# Altium footprint library SamacSys.PcbLib: 24 footprints (part 2 of 2)
Each footprint in its own frame and in the unit in brackets; x right, y up, seen from the top. Pads: shape width x height; smd on the part's side, far side on the other; paste and mask are expansions set on the pad; w line width, h text height; cw(c..) or ccw(c..) is an arc to the next point about the centre after c.
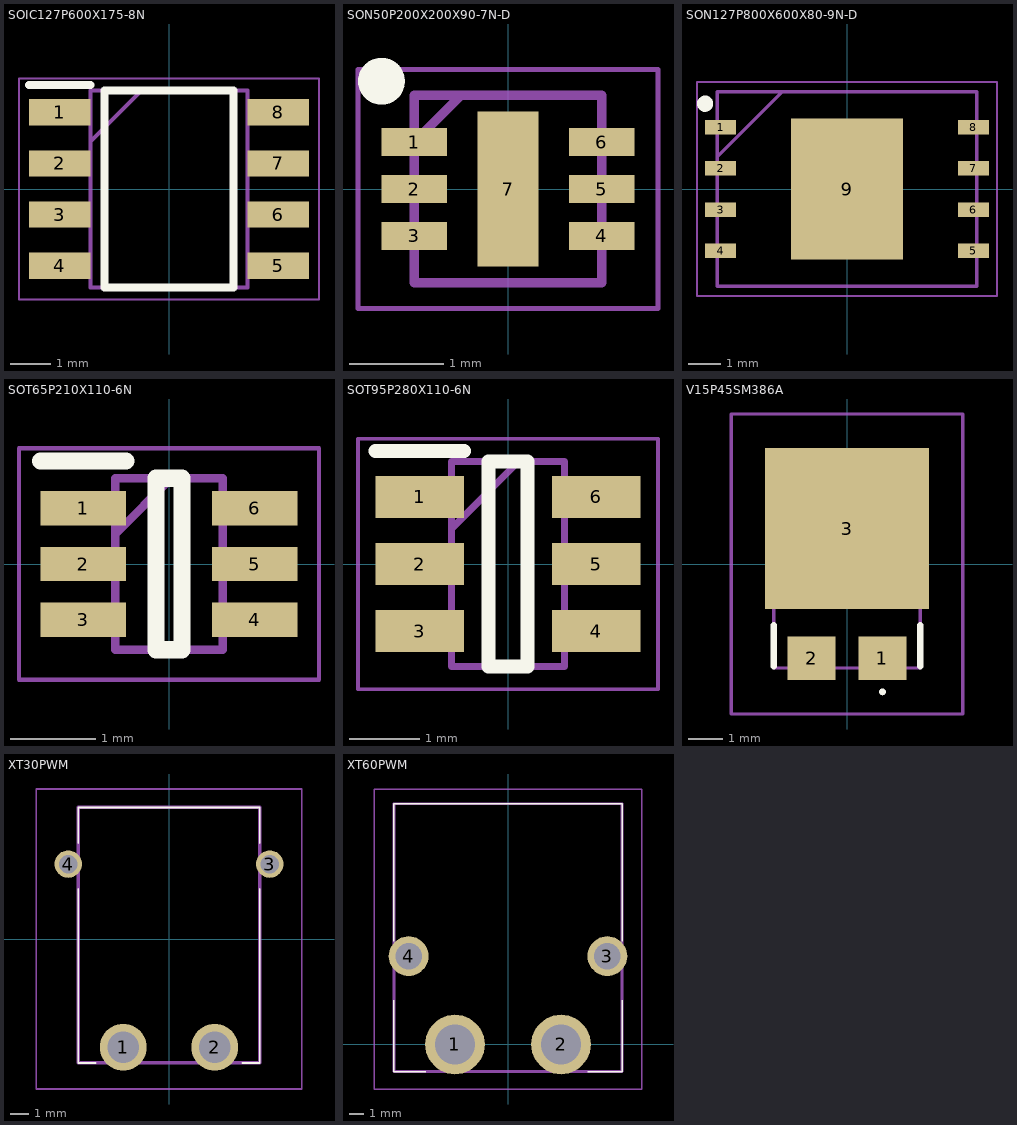
[diagram p1: the footprints below, top view; thin cyan lines are the x and y axes]

## SOIC127P600X175-8N [mm]
pads (8):
  rect 1.525x0.65 smd: 1(-2.712,1.905) 2(-2.712,0.635) 3(-2.712,-0.635) 4(-2.712,-1.905) 5(2.712,-1.905) 6(2.712,-0.635) 7(2.712,0.635) 8(2.712,1.905)
Top Overlay:
  lines w0.2: -3.475,2.58 -1.95,2.58 ; -1.6,-2.45 1.6,-2.45 1.6,2.45 -1.6,2.45 -1.6,-2.45
Mechanical 13:
  lines w0.1: -1.95,1.18 -0.68,2.45 ; -1.95,-2.45 1.95,-2.45 1.95,2.45 -1.95,2.45 -1.95,-2.45
Mechanical 15:
  lines w0.05: -3.725,-2.75 3.725,-2.75 3.725,2.75 -3.725,2.75 -3.725,-2.75
3D body "NE555DR.stp": height 1.75, standoff 0, extent -3,-2.45 3,2.45

## SON50P200X200X90-7N-D [mm]
pads (7):
  rect 0.7x0.3 smd: 1(-1,0.5) 2(-1,0) 3(-1,-0.5) 4(1,-0.5) 5(1,0) 6(1,0.5)
  rect 0.65x1.65 smd: 7(0,0)
Top Overlay:
  circle w0.25: c-1.35,1.15 r0.125
Mechanical 13:
  lines w0.1: -1,0.5 -0.5,1 ; -1,-1 -1,1 1,1 1,-1 -1,-1
Mechanical 15:
  lines w0.05: -1.6,-1.275 -1.6,1.275 1.6,1.275 1.6,-1.275 -1.6,-1.275
3D body "TQP4M0008.stp": height 0.85, standoff 0, extent -2.25,-2.25 2.25,2.25

## SON127P800X600X80-9N-D [mm]
pads (9):
  rect 0.95x0.45 smd: 1(-3.9,1.905) 2(-3.9,0.635) 3(-3.9,-0.635) 4(-3.9,-1.905) 5(3.9,-1.905) 6(3.9,-0.635) 7(3.9,0.635) 8(3.9,1.905)
  rect 3.45x4.35 smd: 9(0,0)
Top Overlay:
  circle w0.25: c-4.375,2.63 r0.125
Mechanical 13:
  lines w0.1: -4,1 -2,3 ; -4,-3 -4,3 4,3 4,-3 -4,-3
Mechanical 15:
  lines w0.05: -4.625,-3.3 -4.625,3.3 4.625,3.3 4.625,-3.3 -4.625,-3.3
3D body "W25Q01JVZEIM_TU.stp": height 0.8, standoff 0, extent -4.05,-3 4.05,3

## SOT65P210X110-6N [mm]
pads (6):
  rect 1x0.4 smd: 1(-1,0.65) 2(-1,0) 3(-1,-0.65) 4(1,-0.65) 5(1,0) 6(1,0.65)
Top Overlay:
  lines w0.2: -1.5,1.2 -0.5,1.2 ; -0.15,-1 -0.15,1 0.15,1 0.15,-1 -0.15,-1
Mechanical 13:
  lines w0.1: -0.625,0.35 0.025,1 ; -0.625,-1 -0.625,1 0.625,1 0.625,-1 -0.625,-1
Mechanical 15:
  lines w0.05: -1.75,-1.35 -1.75,1.35 1.75,1.35 1.75,-1.35 -1.75,-1.35
3D body "BZX84C3V3TS-7-F.stp": height 1.1, standoff 0, extent -1.05,-1 1.05,1

## SOT95P280X110-6N [mm]
pads (6):
  rect 1.25x0.6 smd: 1(-1.25,0.95) 2(-1.25,0) 3(-1.25,-0.95) 4(1.25,-0.95) 5(1.25,0) 6(1.25,0.95)
Top Overlay:
  lines w0.2: -1.875,1.6 -0.625,1.6 ; -0.275,-1.45 -0.275,1.45 0.275,1.45 0.275,-1.45 -0.275,-1.45
Mechanical 13:
  lines w0.1: -0.8,0.5 0.15,1.45 ; -0.8,-1.45 -0.8,1.45 0.8,1.45 0.8,-1.45 -0.8,-1.45
Mechanical 15:
  lines w0.05: -2.125,-1.775 -2.125,1.775 2.125,1.775 2.125,-1.775 -2.125,-1.775
3D body "LMR51430XDDCR.stp": height 0.97, standoff 0, extent -1.4,-1.45 1.4,1.45

## V15P45SM386A [mm]
pads (3):
  rect 1.4x1.27 smd: 1(1.04,-2.765) 2(-1.04,-2.765)
  rect 4.8x4.72 smd: 3(0,1.04)
Top Overlay:
  lines w0.1: 1.04,-3.8 ccw(c1.04,-3.75) 1.04,-3.7 ccw(c1.04,-3.75) 1.04,-3.8
  lines w0.2: -2.15,-3 -2.15,-1.8 ; 2.15,-3 2.15,-1.8
Mechanical 13:
  lines w0.1: -2.15,-3.05 -2.15,3.05 2.15,3.05 2.15,-3.05 -2.15,-3.05
Mechanical 15:
  lines w0.1: -3.4,-4.4 -3.4,4.4 3.4,4.4 3.4,-4.4 -3.4,-4.4
3D body "V15P45S-M3_86A.stp": height 1.3, standoff 0, extent -2.15,-3.273 2.15,3.05

## XT30PWM [mm]
pads (4):
  round 2.55 hole 1.7: 1(-2.5,-5.912) 2(2.5,-5.912)
  round 1.5 hole 1: 3(5.5,4.088) 4(-5.5,4.088)
Top Overlay:
  lines w0.1: -4.95,2.737 -4.95,-6.762 -4,-6.762 ; -4.95,5.237 -4.95,7.187 4.95,7.187 4.95,5.237 ; 4,-6.762 4.95,-6.762 4.95,2.737
Mechanical 13:
  lines w0.2: -4.95,-6.762 4.95,-6.762 4.95,7.187 -4.95,7.187 -4.95,-6.762
Mechanical 15:
  lines w0.1: -7.25,-8.188 7.25,-8.188 7.25,8.188 -7.25,8.188 -7.25,-8.188
3D body "XT30PW-M.stp": height 5.06, standoff -2.44, extent -6.65,-6.71 6.65,7.24

## XT60PWM [mm]
pads (4):
  round 4.05 hole 2.7: 1(-3.6,0) 2(3.6,0)
  round 2.7 hole 1.8: 3(6.75,6) 4(-6.75,6)
Top Overlay:
  lines w0.1: -7.75,3 -7.75,-1.85 -5.6,-1.85 ; -7.75,7 -7.75,16.35 7.75,16.35 7.75,7 ; 5.4,-1.85 7.75,-1.85 7.75,3
Mechanical 13:
  lines w0.2: -7.75,-1.85 -7.75,16.35 7.75,16.35 7.75,-1.85 -7.75,-1.85
Mechanical 15:
  lines w0.1: -9.1,-3.025 -9.1,17.35 9.1,17.35 9.1,-3.025 -9.1,-3.025
3D body "XT60PW-M.stp": height 8.44, standoff -2.51, extent -7.95,-1.98 7.95,16.298